# EAGLE library part 768161*G (library cts)
50V Maxumum Connect Resistor 1, terminal 2 to common signal
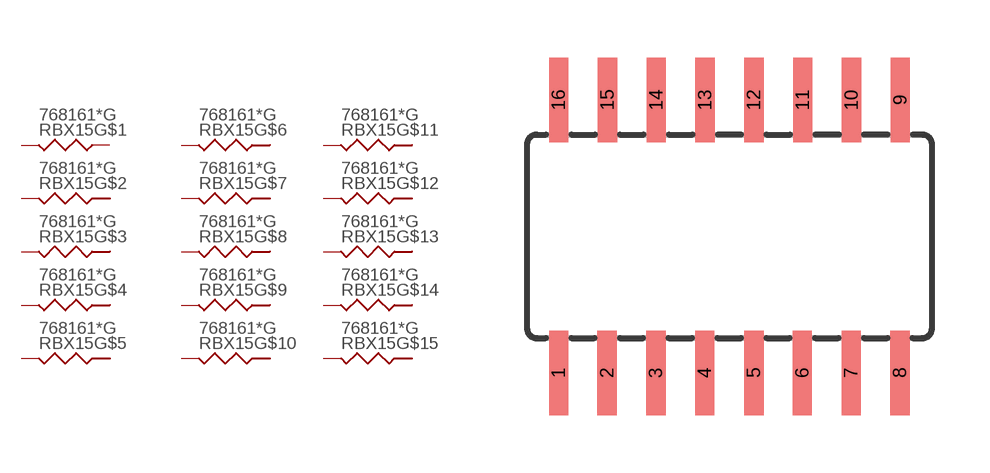
[diagram p0: symbol with the pads of SOP16; footprint SOP16]

Designator prefix RBX15; gates G$1=RESISTOR G$2=BUSSED G$3=BUSSED G$4=BUSSED G$5=BUSSED G$6=BUSSED G$7=BUSSED G$8=BUSSED G$9=BUSSED G$10=BUSSED G$11=BUSSED G$12=BUSSED G$13=BUSSED G$14=BUSSED G$15=BUSSED

## 768161G, 768161000G, 768161100G, 768161101G, 768161102G, 768161103G, 768161104G, 768161105G, 768161111G, 768161112G, 768161113G, 768161114G, 768161120G, 768161121G, 768161123G, 768161124G, 768161150G, 768161151G, 768161152G, 768161153G, 768161154G, 768161180G, 768161181G, 768161182G, 768161183G, 768161184G, 768161201G, 768161202G, 768161203G, 768161204G, 768161220G, 768161221G, 768161222G, 768161223G, 768161224G, 768161270G, 768161271G, 768161272G, 768161273G, 768161274G, 768161330G, 768161331G, 768161332G, 768161333G, 768161334G, 768161390G, 768161391G, 768161392G, 768161393G, 768161394G, 768161470G, 768161471G, 768161472G, 768161473G, 768161474G, 768161510G, 768161511G, 768161512G, 768161560G, 768161561G, 768161562G, 768161563G, 768161564G, 768161680G, 768161681G, 768161682G, 768161683G, 768161684G, 768161820G, 768161821G, 768161822G, 768161823G, 768161824G  [SOP16]
1  G$1:1  pas
2  G$2:2  pas
3  G$3:2  pas
4  G$4:2  pas
5  G$5:2  pas
6  G$6:2  pas
7  G$7:2  pas
8  G$8:2  pas
9  G$9:2  pas
10  G$10:2  pas
11  G$11:2  pas
12  G$12:2  pas
13  G$13:2  pas
14  G$14:2  pas
15  G$15:2  pas
16  G$1:2  pas

## Footprint SOP16 (pad centres in mm)
Small Outline Package
smd 0.5 x 2.2: 1 0,-0.375; 2 1.26,-0.375; 3 2.53,-0.375; 4 3.8,-0.375; 5 5.08,-0.375; 6 6.34,-0.375; 7 7.61,-0.375; 8 8.88,-0.375; 9 8.89,6.725; 10 7.62,6.725; 11 6.35,6.725; 12 5.08,6.725; 13 3.81,6.725; 14 2.54,6.725; 15 1.27,6.725; 16 0,6.725